# Altium footprint library PowerSwitch.PcbLib: 1 footprints
Each footprint in its own frame and in the unit in brackets; x right, y up, seen from the top. Pads: shape width x height; smd on the part's side, far side on the other; paste and mask are expansions set on the pad; w line width, h text height; cw(c..) or ccw(c..) is an arc to the next point about the centre after c.
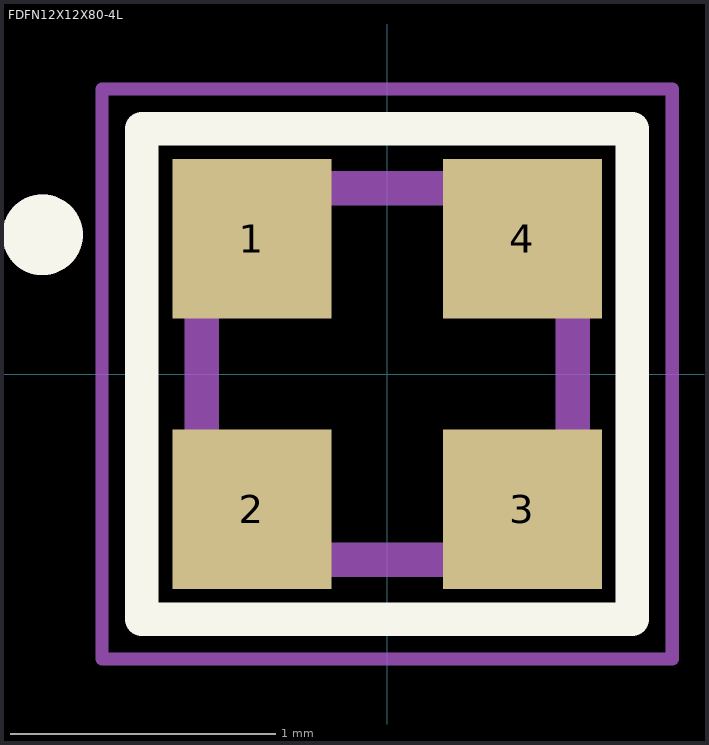
[diagram p0: the footprint, top view; thin cyan lines are the x and y axes]

## FDFN12X12X80-4L [mm]
pads (4):
  rect 0.6x0.6 smd mask+0.05: 1(-0.51,0.51) 2(-0.51,-0.51) 3(0.51,-0.51) 4(0.51,0.51)
Top Overlay:
  circle w0.254: c-1.3,0.525 r0.025
  lines w0.127: -0.925,-0.925 0.925,-0.925 0.925,0.925 -0.925,0.925 -0.925,-0.925
Mechanical 13:
  circle w0.254: c0.409,0.389 r0.025
  circle w0.254: c-1.3,0.525 r0.025
  lines w0.13: -0.7,-0.7 0.7,-0.7 0.7,0.7 -0.7,0.7 -0.7,-0.7
Mechanical 15:
  lines w0.05: -1.075,-1.075 -1.075,1.075 1.075,1.075 1.075,-1.075 -1.075,-1.075
3D body: height 0.8, standoff 0, extent -0.7,-0.7 0.7,0.7
3D body: height 0.82, standoff 0, extent -0.625,0.225 -0.227,0.624